# Altium footprint library PCB - SWITCH - PANASONIC ESE22MV21.PcbLib: 1 footprints
Each footprint in its own frame and in the unit in brackets; x right, y up, seen from the top. Pads: shape width x height; smd on the part's side, far side on the other; paste and mask are expansions set on the pad; w line width, h text height; cw(c..) or ccw(c..) is an arc to the next point about the centre after c.
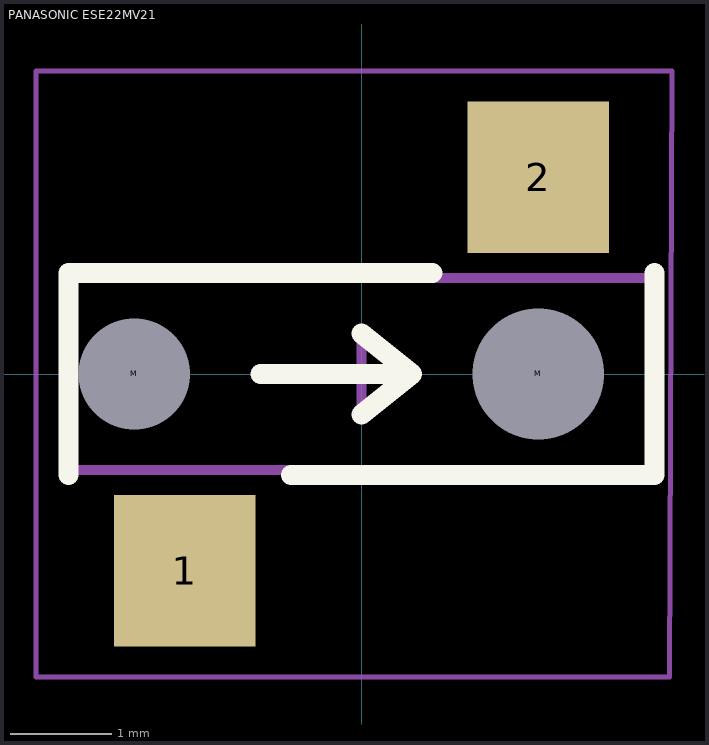
[diagram p0: the footprint, top view; thin cyan lines are the x and y axes]

## PANASONIC ESE22MV21 [mm] "Switch. 2-leads, body 1.9x5.7mm, Panasonic ESE-22MV21T"
height 6.3
pads (4):
  rect 1.4x1.5 smd: 1(-1.75,-1.95) 2(1.75,1.95)
  round 0.1 hole 1.1 unplated mask+0.1: M(-2.25,0)
  round 0.1 hole 1.3 unplated mask+0.1: M(1.75,0)
Top Overlay:
  lines w0.2: -2.9,-1 -2.9,1 0.7,1 ; -1,0 0.5,0 ; -0.7,-1 2.9,-1 2.9,1 ; 0,-0.4 0.5,0 ; 0,0.4 0.5,0
Mechanical 13:
  lines w0.1: -2.875,-0.95 2.875,-0.95 2.875,0.95 -2.875,0.95 -2.875,-0.95
Mechanical 15 (Mech15):
  lines w0.05: -3.225,-3 3.05,-3 3.075,3 -3.225,3 -3.225,-3
  lines w0.1: -0.3,0 0.3,0 ; 0,-0.3 0,0.3
3D body "Panasonic - ESE22MV21.step": height 6.3, standoff -0.8, extent -2.875,-2.2 2.875,2.2